# Altium schematic symbol library Nixie Symbols.SchLib: 3 symbols
Pins are listed as number, name and electrical type; pins without a type are passive.

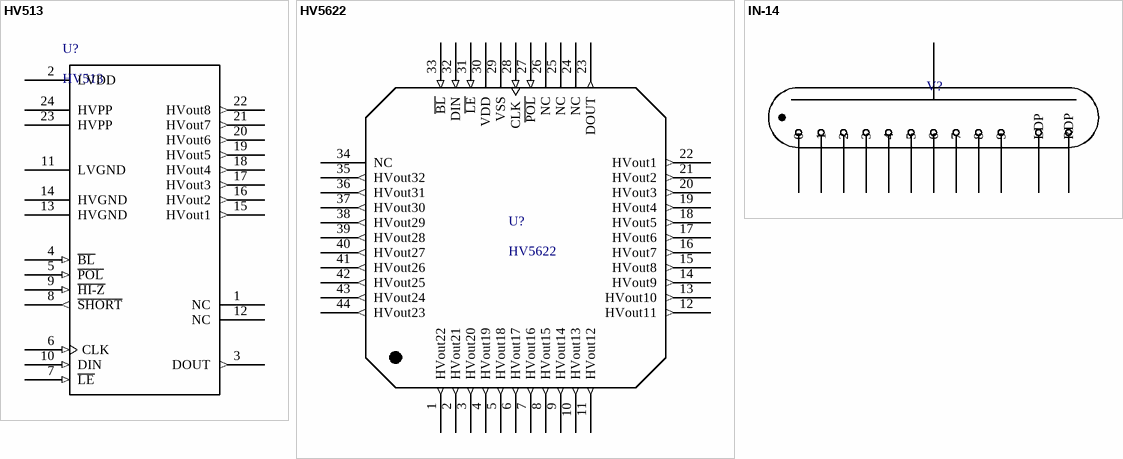
[diagram p0: symbols HV513 to IN-14]

## HV513
designator U?
8 Channel High Voltage Serial-to-Parallel Converter
footprint SOIC127P-24W (SOP, 24-Leads, Body 15.40x7.50mm, Pitch 1.27mm, IPC Medium Density)
pins: 1 NC, 2 LVDD (power), 3 DOUT (out), 4 ~{BL} (in), 5 ~{POL} (in), 6 CLK (in), 7 ~{LE} (in), 8 ~{SHORT} (out), 9 ~{HI-Z} (in), 10 DIN (in), 11 LVGND (power), 12 NC, 13 HVGND (power), 14 HVGND (power), 15 HVout1 (out), 16 HVout2 (out), 17 HVout3 (out), 18 HVout4 (out), 19 HVout5 (out), 20 HVout6 (out), 21 HVout7 (out), 22 HVout8 (out), 23 HVPP (power), 24 HVPP (power)

## HV5622
designator U?
32 Channel High Voltage Serial-to-Parallel with Open Drain Outputs
footprint QFP80P-44N (QFP, 44-Leads, Body 10.00x10.00mm, Pitch 0.80mm, IPC Medium Density)
pins: 1 HVout22 (out), 2 HVout21 (out), 3 HVout20 (out), 4 HVout19 (out), 5 HVout18 (out), 6 HVout17 (out), 7 HVout16 (out), 8 HVout15 (out), 9 HVout14 (out), 10 HVout13 (out), 11 HVout12 (out), 12 HVout11 (out), 13 HVout10 (out), 14 HVout9 (out), 15 HVout8 (out), 16 HVout7 (out), 17 HVout6 (out), 18 HVout5 (out), 19 HVout4 (out), 20 HVout3 (out), 21 HVout2 (out), 22 HVout1 (out), 23 DOUT (out), 24 NC, 25 NC, 26 NC, 27 ~{POL} (in), 28 CLK (in), 29 VSS (power), 30 VDD (power), 31 ~{LE} (in), 32 DIN (in), 33 ~{BL} (in), 34 NC, 35 HVout32 (out), 36 HVout31 (out), 37 HVout30 (out), 38 HVout29 (out), 39 HVout28 (out), 40 HVout27 (out), 41 HVout26 (out), 42 HVout25 (out), 43 HVout24 (out), 44 HVout23 (out)

## IN-14
designator V?  (value not drawn)
IN-14 Russian Nixie Tube
footprint IN-14 (IN-14 Russian Nixie Tube)
pins: A, K0 0, K1 1, K2 2, K3 3, K4 4, K5 5, K6 6, K7 7, K8 8, K9 9, LDP, RDP